# Altium schematic symbol library conn_header.SchLib: 152 symbols
Pins are listed as number, name and electrical type; pins without a type are passive.

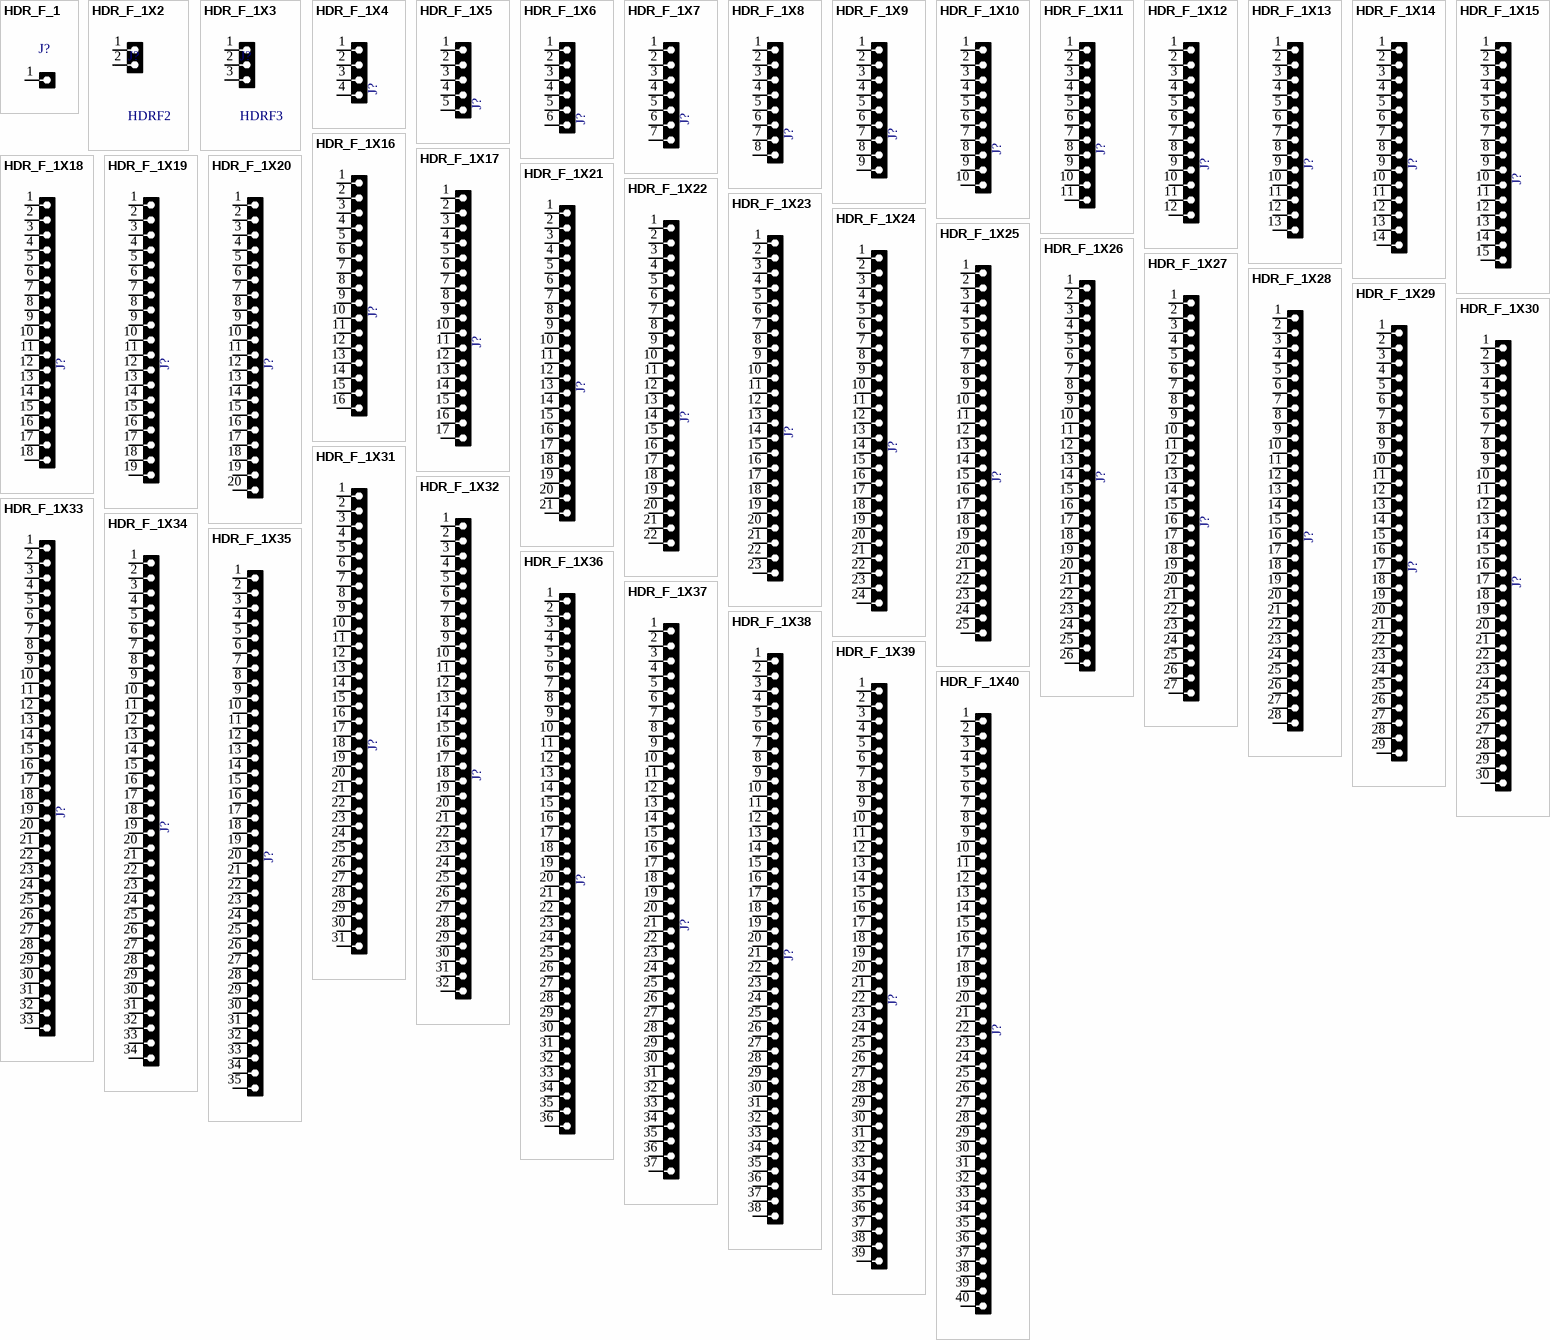
[diagram p0: symbols HDR_F_1 to HDR_F_1X40]

## HDR_F_1
designator J?, comment HDRF1  (value not drawn)
CONN, HEADER, Female, pitch: 2.54mm, 1POS; VALUE: HDRF1
footprint HDR_F_1 (Connector; Header; 1 Position)
pins: 1

## HDR_F_1X2
designator J?, comment HDRF2
CONN, HEADER, Female, pitch: 2.54mm, 2POS; VALUE: HDRF2
footprint HDR_F_1X2 (HEADER FEMALE pitch: 2.54mm)
pins: 1, 2

## HDR_F_1X3
designator J?, comment HDRF3
CONN, HEADER, Female, pitch: 2.54mm, 3POS; VALUE: HDRF3
footprint HDR_F_1X3 (HEADER FEMALE pitch: 2.54mm)
pins: 1, 2, 3

## HDR_F_1X4
designator J?, comment HDRF4  (value not drawn)
CONN, HEADER, Female, pitch: 2.54mm, 4POS; VALUE: HDRF4
footprint HDR_F_1X4 (HEADER FEMALE pitch: 2.54mm)
pins: 1, 2, 3, 4

## HDR_F_1X5
designator J?, comment HDRF5  (value not drawn)
CONN, HEADER, Female, pitch: 2.54mm, 5POS; VALUE: HDRF5
footprint HDR_F_1X5 (HEADER FEMALE pitch: 2.54mm)
pins: 1, 2, 3, 4, 5

## HDR_F_1X6
designator J?, comment HDRF6  (value not drawn)
CONN, HEADER, Female, pitch: 2.54mm, 6POS; VALUE: HDRF6
footprint HDR_F_1X6 (HEADER FEMALE pitch: 2.54mm)
pins: 1, 2, 3, 4, 5, 6

## HDR_F_1X7
designator J?, comment HDRF7  (value not drawn)
CONN, HEADER, Female, pitch: 2.54mm, 7POS; VALUE: HDRF7
footprint HDR_F_1X7 (HEADER FEMALE pitch: 2.54mm)
pins: 1, 2, 3, 4, 5, 6, 7

## HDR_F_1X8
designator J?, comment HDRF8  (value not drawn)
CONN, HEADER, Female, pitch: 2.54mm, 8POS; VALUE: HDRF8
footprint HDR_F_1X8 (HEADER FEMALE pitch: 2.54mm)
pins: 1, 2, 3, 4, 5, 6, 7, 8

## HDR_F_1X9
designator J?, comment HDRF9  (value not drawn)
CONN, HEADER, Female, pitch: 2.54mm, 9POS; VALUE: HDRF9
footprint HDR_F_1X9 (HEADER FEMALE pitch: 2.54mm)
pins: 1, 2, 3, 4, 5, 6, 7, 8, 9

## HDR_F_1X10
designator J?, comment HDRF10  (value not drawn)
CONN, HEADER, Female, pitch: 2.54mm, 10POS; VALUE: HDRF10
footprint HDR_F_1X10 (HEADER FEMALE pitch: 2.54mm)
pins: 1, 2, 3, 4, 5, 6, 7, 8, 9, 10

## HDR_F_1X11
designator J?, comment HDRF11  (value not drawn)
CONN, HEADER, Female, pitch: 2.54mm, 11POS; VALUE: HDRF11
footprint HDR_F_1X11 (Connector; Header; 11 Position)
pins: 1, 2, 3, 4, 5, 6, 7, 8, 9, 10, 11

## HDR_F_1X12
designator J?, comment HDRF12  (value not drawn)
CONN, HEADER, Female, pitch: 2.54mm, 12POS; VALUE: HDRF12
footprint HDR_F_1X12 (Connector; Header; 12 Position)
pins: 1, 2, 3, 4, 5, 6, 7, 8, 9, 10, 11, 12

## HDR_F_1X13
designator J?, comment HDRF13  (value not drawn)
CONN, HEADER, Female, pitch: 2.54mm, 13POS; VALUE: HDRF13
footprint HDR_F_1X13 (Connector; Header; 13 Position)
pins: 1, 2, 3, 4, 5, 6, 7, 8, 9, 10, 11, 12, 13

## HDR_F_1X14
designator J?, comment HDRF14  (value not drawn)
CONN, HEADER, Female, pitch: 2.54mm, 14POS; VALUE: HDRF14
footprint HDR_F_1X14 (Connector; Header; 14 Position)
pins: 1, 2, 3, 4, 5, 6, 7, 8, 9, 10, 11, 12, 13, 14

## HDR_F_1X15
designator J?, comment HDRF15  (value not drawn)
CONN, HEADER, Female, pitch: 2.54mm, 15POS; VALUE: HDRF15
footprint HDR_F_1X15 (Connector; Header; 15 Position)
pins: 1, 2, 3, 4, 5, 6, 7, 8, 9, 10, 11, 12, 13, 14, 15

## HDR_F_1X16
designator J?, comment HDRF16  (value not drawn)
CONN, HEADER, Female, pitch: 2.54mm, 16POS; VALUE: HDRF16
footprint HDR_F_1X16 (Connector; Header; 16 Position)
pins: 1, 2, 3, 4, 5, 6, 7, 8, 9, 10, 11, 12, 13, 14, 15, 16

## HDR_F_1X17
designator J?, comment HDRF17  (value not drawn)
CONN, HEADER, Female, pitch: 2.54mm, 17POS; VALUE: HDRF17
footprint HDR_F_1X17 (Connector; Header; 17 Position)
pins: 1, 2, 3, 4, 5, 6, 7, 8, 9, 10, 11, 12, 13, 14, 15, 16, 17

## HDR_F_1X18
designator J?, comment HDRF18  (value not drawn)
CONN, HEADER, Female, pitch: 2.54mm, 18POS; VALUE: HDRF18
footprint HDR_F_1X18 (Connector; Header; 18 Position)
pins: 1, 2, 3, 4, 5, 6, 7, 8, 9, 10, 11, 12, 13, 14, 15, 16, 17, 18

## HDR_F_1X19
designator J?, comment HDRF19  (value not drawn)
CONN, HEADER, Female, pitch: 2.54mm, 19POS; VALUE: HDRF19
footprint HDR_F_1X19 (Connector; Header; 19 Position)
pins: 1, 2, 3, 4, 5, 6, 7, 8, 9, 10, 11, 12, 13, 14, 15, 16, 17, 18, 19

## HDR_F_1X20
designator J?, comment HDRF20  (value not drawn)
CONN, HEADER, Female, pitch: 2.54mm, 20POS; VALUE: HDRF20
footprint HDR_F_1X20 (Connector; Header; 20 Position)
pins: 1, 2, 3, 4, 5, 6, 7, 8, 9, 10, 11, 12, 13, 14, 15, 16, 17, 18, 19, 20

## HDR_F_1X21
designator J?, comment HDRF21  (value not drawn)
CONN, HEADER, Female, pitch: 2.54mm, 21POS; VALUE: HDRF21
footprint HDR_F_1X21 (Connector; Header; 21 Position)
pins: 1, 2, 3, 4, 5, 6, 7, 8, 9, 10, 11, 12, 13, 14, 15, 16, 17, 18, 19, 20, 21

## HDR_F_1X22
designator J?, comment HDRF22  (value not drawn)
CONN, HEADER, Female, pitch: 2.54mm, 22POS; VALUE: HDRF22
footprint HDR_F_1X22 (Connector; Header; 22 Position)
pins: 1, 2, 3, 4, 5, 6, 7, 8, 9, 10, 11, 12, 13, 14, 15, 16, 17, 18, 19, 20, 21, 22

## HDR_F_1X23
designator J?, comment HDRF23  (value not drawn)
CONN, HEADER, Female, pitch: 2.54mm, 23POS; VALUE: HDRF23
footprint HDR_F_1X23 (Connector; Header; 23 Position)
pins: 1, 2, 3, 4, 5, 6, 7, 8, 9, 10, 11, 12, 13, 14, 15, 16, 17, 18, 19, 20, 21, 22, 23

## HDR_F_1X24
designator J?, comment HDRF24  (value not drawn)
CONN, HEADER, Female, pitch: 2.54mm, 24POS; VALUE: HDRF24
footprint HDR_F_1X24 (Connector; Header; 24 Position)
pins: 1, 2, 3, 4, 5, 6, 7, 8, 9, 10, 11, 12, 13, 14, 15, 16, 17, 18, 19, 20, 21, 22, 23, 24

## HDR_F_1X25
designator J?, comment HDRF25  (value not drawn)
CONN, HEADER, Female, pitch: 2.54mm, 25POS; VALUE: HDRF25
footprint HDR_F_1X25 (Connector; Header; 25 Position)
pins: 1, 2, 3, 4, 5, 6, 7, 8, 9, 10, 11, 12, 13, 14, 15, 16, 17, 18, 19, 20, 21, 22, 23, 24, 25

## HDR_F_1X26
designator J?, comment HDRF26  (value not drawn)
CONN, HEADER, Male, pitch: 2.54mm, 26POS; VALUE: HDRF26
footprint HDR_F_1X26 (Connector; Header; 26 Position)
pins: 1, 2, 3, 4, 5, 6, 7, 8, 9, 10, 11, 12, 13, 14, 15, 16, 17, 18, 19, 20, 21, 22, 23, 24, 25, 26

## HDR_F_1X27
designator J?, comment HDRF27  (value not drawn)
CONN, HEADER, Male, pitch: 2.54mm, 27POS; VALUE: HDRF27
footprint HDR_F_1X27 (Connector; Header; 27 Position)
pins: 1, 2, 3, 4, 5, 6, 7, 8, 9, 10, 11, 12, 13, 14, 15, 16, 17, 18, 19, 20, 21, 22, 23, 24, 25, 26, 27

## HDR_F_1X28
designator J?, comment HDRF28  (value not drawn)
CONN, HEADER, Male, pitch: 2.54mm, 28POS; VALUE: HDRF28
footprint HDR_F_1X28 (Connector; Header; 28 Position)
pins: 1, 2, 3, 4, 5, 6, 7, 8, 9, 10, 11, 12, 13, 14, 15, 16, 17, 18, 19, 20, 21, 22, 23, 24, 25, 26, 27, 28

## HDR_F_1X29
designator J?, comment HDRF29  (value not drawn)
CONN, HEADER, Male, pitch: 2.54mm, 29POS; VALUE: HDRF29
footprint HDR_F_1X29 (Connector; Header; 29 Position)
pins: 1, 2, 3, 4, 5, 6, 7, 8, 9, 10, 11, 12, 13, 14, 15, 16, 17, 18, 19, 20, 21, 22, 23, 24, 25, 26, 27, 28, 29

## HDR_F_1X30
designator J?, comment HDRF30  (value not drawn)
CONN, HEADER, Female, pitch: 2.54mm, 30POS; VALUE: HDRF30
footprint HDR_F_1X30 (Connector; Header; 30 Position)
pins: 1, 2, 3, 4, 5, 6, 7, 8, 9, 10, 11, 12, 13, 14, 15, 16, 17, 18, 19, 20, 21, 22, 23, 24, 25, 26, 27, 28, 29, 30

## HDR_F_1X31
designator J?, comment HDRF31  (value not drawn)
CONN, HEADER, Female, pitch: 2.54mm, 31POS; VALUE: HDRF31
footprint HDR_F_1X31 (Connector; Header; 31 Position)
pins: 1, 2, 3, 4, 5, 6, 7, 8, 9, 10, 11, 12, 13, 14, 15, 16, 17, 18, 19, 20, 21, 22, 23, 24, 25, 26, 27, 28, 29, 30, 31

## HDR_F_1X32
designator J?, comment HDRF32  (value not drawn)
CONN, HEADER, Female, pitch: 2.54mm, 32POS; VALUE: HDRF32
footprint HDR_F_1X32 (Connector; Header; 32 Position)
pins: 1, 2, 3, 4, 5, 6, 7, 8, 9, 10, 11, 12, 13, 14, 15, 16, 17, 18, 19, 20, 21, 22, 23, 24, 25, 26, 27, 28, 29, 30, 31, 32

## HDR_F_1X33
designator J?, comment HDRF33  (value not drawn)
CONN, HEADER, Female, pitch: 2.54mm, 33POS; VALUE: HDRF33
footprint HDR_F_1X33 (Connector; Header; 33 Position)
pins: 1, 2, 3, 4, 5, 6, 7, 8, 9, 10, 11, 12, 13, 14, 15, 16, 17, 18, 19, 20, 21, 22, 23, 24, 25, 26, 27, 28, 29, 30, 31, 32, 33

## HDR_F_1X34
designator J?, comment HDRF34  (value not drawn)
CONN, HEADER, Female, pitch: 2.54mm, 34POS; VALUE: HDRF34
footprint HDR_F_1X34 (Connector; Header; 34 Position)
pins: 1, 2, 3, 4, 5, 6, 7, 8, 9, 10, 11, 12, 13, 14, 15, 16, 17, 18, 19, 20, 21, 22, 23, 24, 25, 26, 27, 28, 29, 30, 31, 32, 33, 34

## HDR_F_1X35
designator J?, comment HDRF35  (value not drawn)
CONN, HEADER, Female, pitch: 2.54mm, 35POS; VALUE: HDRF35
footprint HDR_F_1X35 (Connector; Header; 35 Position)
pins: 1, 2, 3, 4, 5, 6, 7, 8, 9, 10, 11, 12, 13, 14, 15, 16, 17, 18, 19, 20, 21, 22, 23, 24, 25, 26, 27, 28, 29, 30, 31, 32, 33, 34, 35

## HDR_F_1X36
designator J?, comment HDRF36  (value not drawn)
CONN, HEADER, Female, pitch: 2.54mm, 36POS; VALUE: HDRF36
footprint HDR_F_1X36 (Connector; Header; 36 Position)
pins: 1, 2, 3, 4, 5, 6, 7, 8, 9, 10, 11, 12, 13, 14, 15, 16, 17, 18, 19, 20, 21, 22, 23, 24, 25, 26, 27, 28, 29, 30, 31, 32, 33, 34, 35, 36

## HDR_F_1X37
designator J?, comment HDRF37  (value not drawn)
CONN, HEADER, Female, pitch: 2.54mm, 37POS; VALUE: HDRF37
footprint HDR_F_1X37 (Connector; Header; 37 Position)
pins: 1, 2, 3, 4, 5, 6, 7, 8, 9, 10, 11, 12, 13, 14, 15, 16, 17, 18, 19, 20, 21, 22, 23, 24, 25, 26, 27, 28, 29, 30, 31, 32, 33, 34, 35, 36, 37

## HDR_F_1X38
designator J?, comment HDRF38  (value not drawn)
CONN, HEADER, Female, pitch: 2.54mm, 38POS; VALUE: HDRF38
footprint HDR_F_1X38 (Connector; Header; 38 Position)
pins: 1, 2, 3, 4, 5, 6, 7, 8, 9, 10, 11, 12, 13, 14, 15, 16, 17, 18, 19, 20, 21, 22, 23, 24, 25, 26, 27, 28, 29, 30, 31, 32, 33, 34, 35, 36, 37, 38

## HDR_F_1X39
designator J?, comment HDRF39  (value not drawn)
CONN, HEADER, Female, pitch: 2.54mm, 39POS; VALUE: HDRF39
footprint HDR_F_1X39 (Connector; Header; 39 Position)
pins: 1, 2, 3, 4, 5, 6, 7, 8, 9, 10, 11, 12, 13, 14, 15, 16, 17, 18, 19, 20, 21, 22, 23, 24, 25, 26, 27, 28, 29, 30, 31, 32, 33, 34, 35, 36, 37, 38, 39

## HDR_F_1X40
designator J?, comment HDRF40  (value not drawn)
CONN, HEADER, Female, pitch: 2.54mm, 40POS; VALUE: HDRF40
footprint HDR_F_1X40 (Connector; Header; 40 Position)
pins: 1, 2, 3, 4, 5, 6, 7, 8, 9, 10, 11, 12, 13, 14, 15, 16, 17, 18, 19, 20, 21, 22, 23, 24, 25, 26, 27, 28, 29, 30, 31, 32, 33, 34, 35, 36, 37, 38, 39, 40

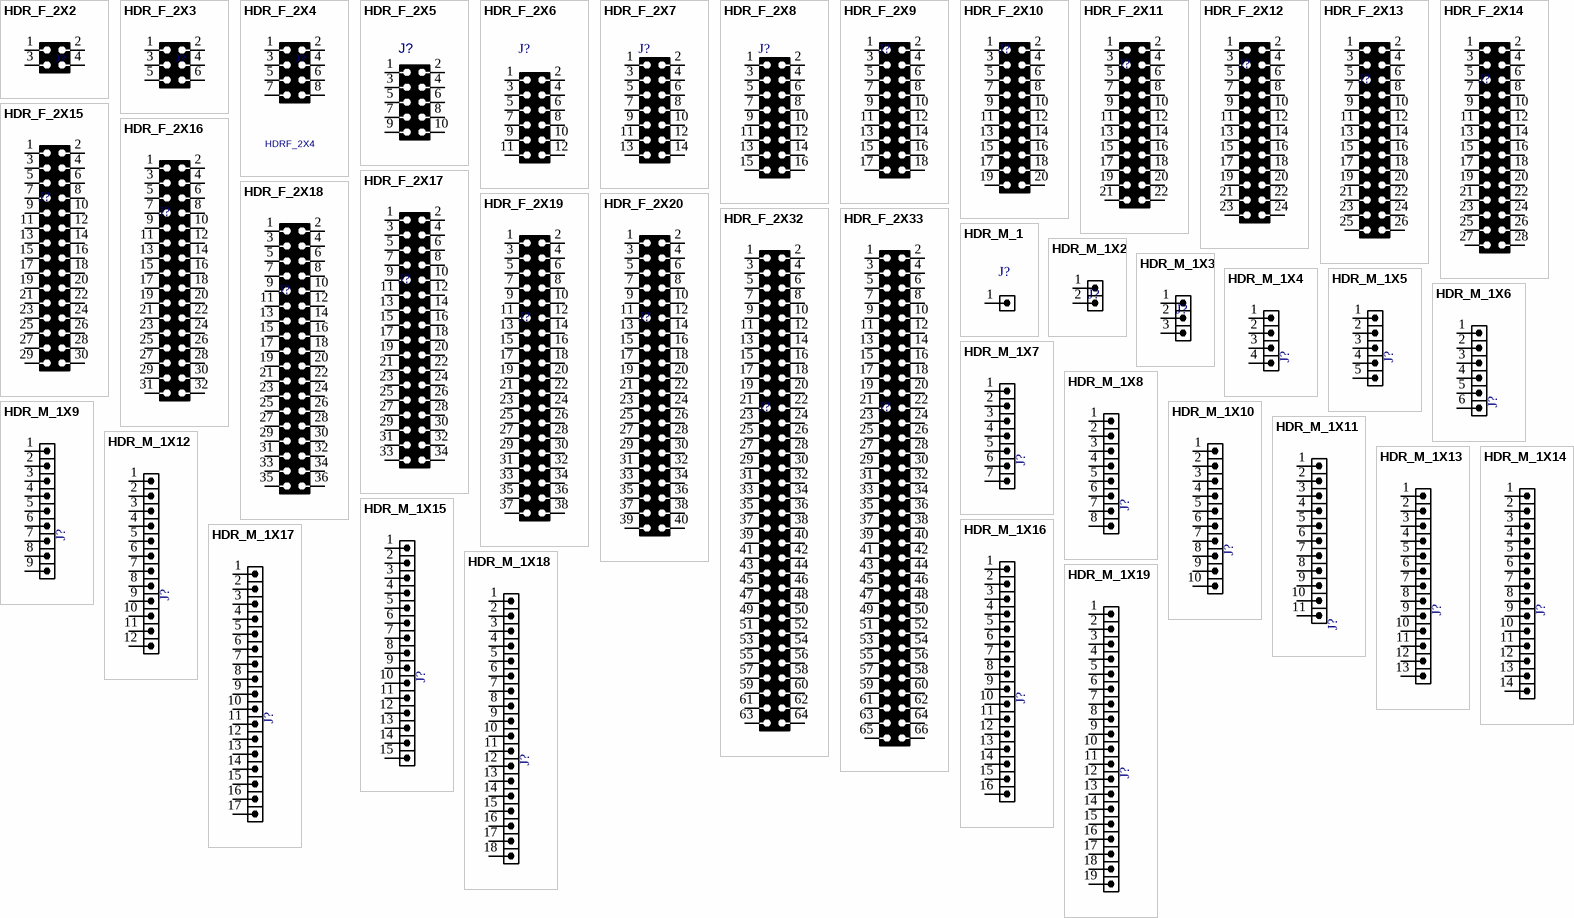
[diagram p1: symbols HDR_F_2X2 to HDR_M_1X19]

## HDR_F_2X2
designator J?, comment HDRF_2X2  (value not drawn)
CONN, HEADER, Female, pitch: 2.54mm, 4POS; MANF_P#: MANF_PART#; MANF: MANF; VALUE: HDRF_2X2
footprint HDR_F_2X2 (Connector; Header; 2x2 Position)
pins: 1, 2, 3, 4

## HDR_F_2X3
designator J?, comment HDRF_2X3  (value not drawn)
CONN, HEADER, Female, pitch: 2.54mm, 6POS; MANF_P#: MANF_PART#; MANF: MANF; VALUE: HDRF_2X3
footprint HDR_F_2X3 (Connector; Header; 3x2 Position)
pins: 1, 2, 3, 4, 5, 6

## HDR_F_2X4
designator J?, comment HDRF_2X4
CONN, HEADER, Female, pitch: 2.54mm, 8POS; MANF_P#: MANF_PART#; MANF: MANF; VALUE: HDRF_2X4
footprint HDR_F_2X4 (Connector; Header; 4x2 Position)
pins: 1, 2, 3, 4, 5, 6, 7, 8

## HDR_F_2X5
designator J?, comment HDRF_2X5  (value not drawn)
CONN, HEADER, Female, pitch: 2.54mm, 10POS; VALUE: HDRF_2X5
footprint HDR_F_2X5 (Connector; Header; 5x2 Position)
pins: 1, 2, 3, 4, 5, 6, 7, 8, 9, 10

## HDR_F_2X6
designator J?, comment HDRF_2X6  (value not drawn)
CONN, HEADER, Female, pitch: 2.54mm, 12POS; VALUE: HDRF_2X6
footprint HDR_F_2X6 (Connector; Header; 6x2 Position)
pins: 1, 2, 3, 4, 5, 6, 7, 8, 9, 10, 11, 12

## HDR_F_2X7
designator J?, comment HDRF_2X7  (value not drawn)
CONN, HEADER, Female, pitch: 2.54mm, 14POS; VALUE: HDRF_2X7
footprint HDR_F_2X7 (Connector; Header; 7x2 Position)
pins: 1, 2, 3, 4, 5, 6, 7, 8, 9, 10, 11, 12, 13, 14

## HDR_F_2X8
designator J?, comment HDRF_2X8  (value not drawn)
CONN, HEADER, Female, pitch: 2.54mm, 16POS; VALUE: HDRF_2X8
footprint HDR_F_2X8 (Connector; Header; 8x2 Position)
pins: 1, 2, 3, 4, 5, 6, 7, 8, 9, 10, 11, 12, 13, 14, 15, 16

## HDR_F_2X9
designator J?, comment HDRF_2X9  (value not drawn)
CONN, HEADER, Female, pitch: 2.54mm, 18POS; VALUE: HDRF_2X9
footprint HDR_F_2X9 (Connector; Header; 9x2 Position)
pins: 1, 2, 3, 4, 5, 6, 7, 8, 9, 10, 11, 12, 13, 14, 15, 16, 17, 18

## HDR_F_2X10
designator J?, comment HDRF_2X10  (value not drawn)
CONN, HEADER, Female, pitch: 2.54mm, 20POS; VALUE: HDRF_2X10
footprint HDR_F_2X10 (Connector; Header; 10x2 Position)
pins: 1, 2, 3, 4, 5, 6, 7, 8, 9, 10, 11, 12, 13, 14, 15, 16, 17, 18, 19, 20

## HDR_F_2X11
designator J?, comment HDRF_2X11  (value not drawn)
CONN, HEADER, Female, pitch: 2.54mm, 22POS; VALUE: HDRF_2X11
footprint HDR_F_2X11 (Connector; Header; 11x2 Position)
pins: 1, 2, 3, 4, 5, 6, 7, 8, 9, 10, 11, 12, 13, 14, 15, 16, 17, 18, 19, 20, 21, 22

## HDR_F_2X12
designator J?, comment HDRF_2X12  (value not drawn)
CONN, HEADER, Female, pitch: 2.54mm, 24POS; VALUE: HDRF_2X12
footprint HDR_F_2X12 (Connector; Header; 12x2 Position)
pins: 1, 2, 3, 4, 5, 6, 7, 8, 9, 10, 11, 12, 13, 14, 15, 16, 17, 18, 19, 20, 21, 22, 23, 24

## HDR_F_2X13
designator J?, comment HDRF_2X13  (value not drawn)
CONN, HEADER, Female, pitch: 2.54mm, 26POS; VALUE: HDRF_2X13
footprint HDR_F_2X13 (Connector; Header; 13x2 Position)
pins: 1, 2, 3, 4, 5, 6, 7, 8, 9, 10, 11, 12, 13, 14, 15, 16, 17, 18, 19, 20, 21, 22, 23, 24, 25, 26

## HDR_F_2X14
designator J?, comment HDRF_2X14  (value not drawn)
CONN, HEADER, Female, pitch: 2.54mm, 28POS; VALUE: HDRF_2X14
footprint HDR_F_2X14 (Connector; Header; 14x2 Position)
pins: 1, 2, 3, 4, 5, 6, 7, 8, 9, 10, 11, 12, 13, 14, 15, 16, 17, 18, 19, 20, 21, 22, 23, 24, 25, 26, 27, 28

## HDR_F_2X15
designator J?, comment HDRF_2X15  (value not drawn)
CONN, HEADER, Female, pitch: 2.54mm, 30POS; VALUE: HDRF_2X15
footprint HDR_F_2X15 (Connector; Header; 15x2 Position)
pins: 1, 2, 3, 4, 5, 6, 7, 8, 9, 10, 11, 12, 13, 14, 15, 16, 17, 18, 19, 20, 21, 22, 23, 24, 25, 26, 27, 28, 29, 30

## HDR_F_2X16
designator J?, comment HDRF_2X16  (value not drawn)
CONN, HEADER, Female, pitch: 2.54mm, 32POS; VALUE: HDRF_2X16
footprint HDR_F_2X16 (Connector; Header; 16x2 Position)
pins: 1, 2, 3, 4, 5, 6, 7, 8, 9, 10, 11, 12, 13, 14, 15, 16, 17, 18, 19, 20, 21, 22, 23, 24, 25, 26, 27, 28, 29, 30, 31, 32

## HDR_F_2X17
designator J?, comment HDRF_2X17  (value not drawn)
CONN, HEADER, Female, pitch: 2.54mm, 34POS; VALUE: HDRF_2X17
footprint HDR_F_2X17 (Connector; Header; 17x2 Position)
pins: 1, 2, 3, 4, 5, 6, 7, 8, 9, 10, 11, 12, 13, 14, 15, 16, 17, 18, 19, 20, 21, 22, 23, 24, 25, 26, 27, 28, 29, 30, 31, 32, 33, 34

## HDR_F_2X18
designator J?, comment HDRF_2X18  (value not drawn)
CONN, HEADER, Female, pitch: 2.54mm, 36POS; VALUE: HDRF_2X18
footprint HDR_F_2X18 (Connector; Header; 18x2 Position)
pins: 1, 2, 3, 4, 5, 6, 7, 8, 9, 10, 11, 12, 13, 14, 15, 16, 17, 18, 19, 20, 21, 22, 23, 24, 25, 26, 27, 28, 29, 30, 31, 32, 33, 34, 35, 36

## HDR_F_2X19
designator J?, comment HDRF_2X19  (value not drawn)
CONN, HEADER, Female, pitch: 2.54mm, 38POS; VALUE: HDRF_2X19
footprint HDR_F_2X19 (Connector; Header; 19x2 Position)
pins: 1, 2, 3, 4, 5, 6, 7, 8, 9, 10, 11, 12, 13, 14, 15, 16, 17, 18, 19, 20, 21, 22, 23, 24, 25, 26, 27, 28, 29, 30, 31, 32, 33, 34, 35, 36, 37, 38

## HDR_F_2X20
designator J?, comment HDRF_2X20  (value not drawn)
CONN, HEADER, Female, pitch: 2.54mm, 40POS; VALUE: HDRF_2X20
footprint HDR_F_2X20 (Connector; Header; 20x2 Position)
pins: 1, 2, 3, 4, 5, 6, 7, 8, 9, 10, 11, 12, 13, 14, 15, 16, 17, 18, 19, 20, 21, 22, 23, 24, 25, 26, 27, 28, 29, 30, 31, 32, 33, 34, 35, 36, 37, 38, 39, 40

## HDR_F_2X32
designator J?, comment HDRF_2X32  (value not drawn)
CONN, HEADER, Female, pitch: 2.54mm, 64POS; VALUE: HDRF_2X32
footprint HDR_F_2X32 (Footprint not found)
pins: 1, 2, 3, 4, 5, 6, 7, 8, 9, 10, 11, 12, 13, 14, 15, 16, 17, 18, 19, 20, 21, 22, 23, 24, 25, 26, 27, 28, 29, 30, 31, 32, 33, 34, 35, 36, 37, 38, 39, 40, 41, 42, 43, 44, 45, 46, 47, 48, 49, 50, 51, 52, 53, 54, 55, 56, 57, 58, 59, 60, 61, 62, 63, 64

## HDR_F_2X33
designator J?, comment HDRF_2X33  (value not drawn)
CONN, HEADER, Female, pitch: 2.54mm, 66POS; VALUE: HDRF_2X33
footprint HDR_F_2X33 (Male Header 2X32 with 2.54 mm Pitch)
pins: 1, 2, 3, 4, 5, 6, 7, 8, 9, 10, 11, 12, 13, 14, 15, 16, 17, 18, 19, 20, 21, 22, 23, 24, 25, 26, 27, 28, 29, 30, 31, 32, 33, 34, 35, 36, 37, 38, 39, 40, 41, 42, 43, 44, 45, 46, 47, 48, 49, 50, 51, 52, 53, 54, 55, 56, 57, 58, 59, 60, 61, 62, 63, 64, 65, 66

## HDR_M_1
designator J?, comment HDRM1  (value not drawn)
CONN, HEADER, Male, pitch: 2.54mm, 1POS; VALUE: HDRM1
footprint HDR_M_1 (Footprint not found)
pins: 1

## HDR_M_1X2
designator J?, comment HDRM2  (value not drawn)
CONN, HEADER, Male, pitch: 2.54mm, 2POS; VALUE: HDRM2
footprint HDR_M_1X2
pins: 1, 2

## HDR_M_1X3
designator J?, comment HDRM3  (value not drawn)
CONN, HEADER, Male, pitch: 2.54mm, 3POS; VALUE: HDRM3
footprint HDR_M_1X3
pins: 1, 2, 3

## HDR_M_1X4
designator J?, comment HDR1X4  (value not drawn)
CONN, HEADER, Male, pitch: 2.54mm, 4POS; VALUE: HDRM4
footprint HDR_M_1X4
pins: 1, 2, 3, 4

## HDR_M_1X5
designator J?, comment HDR1X5  (value not drawn)
CONN, HEADER, Male, pitch: 2.54mm, 5POS; VALUE: HDRM5
footprint HDR_M_1X5
pins: 1, 2, 3, 4, 5

## HDR_M_1X6
designator J?, comment HDR1X6  (value not drawn)
CONN, HEADER, Male, pitch: 2.54mm, 6POS; VALUE: HDRM6
footprint HDR_M_1X6
pins: 1, 2, 3, 4, 5, 6

## HDR_M_1X7
designator J?, comment HDR1X7  (value not drawn)
CONN, HEADER, Male, pitch: 2.54mm, 7POS; VALUE: HDRM7
footprint HDR_M_1X7
pins: 1, 2, 3, 4, 5, 6, 7

## HDR_M_1X8
designator J?, comment HDR1X8  (value not drawn)
CONN, HEADER, Male, pitch: 2.54mm, 8POS; VALUE: HDRM8
footprint HDR_M_1X8
pins: 1, 2, 3, 4, 5, 6, 7, 8

## HDR_M_1X9
designator J?, comment HDR1X9  (value not drawn)
CONN, HEADER, Male, pitch: 2.54mm, 9POS; VALUE: HDRM9
footprint HDR_M_1X9
pins: 1, 2, 3, 4, 5, 6, 7, 8, 9

## HDR_M_1X10
designator J?, comment HDR1X10  (value not drawn)
CONN, HEADER, Male, pitch: 2.54mm, 10POS; VALUE: HDRM10
footprint HDR_M_1X10
pins: 1, 2, 3, 4, 5, 6, 7, 8, 9, 10

## HDR_M_1X11
designator J?, comment HDR1X11  (value not drawn)
CONN, HEADER, Male, pitch: 2.54mm, 11POS; VALUE: HDRM11
footprint HDR_M_1X11
pins: 1, 2, 3, 4, 5, 6, 7, 8, 9, 10, 11

## HDR_M_1X12
designator J?, comment HDR1X12  (value not drawn)
CONN, HEADER, Male, pitch: 2.54mm, 12POS; VALUE: HDRM12
footprint HDR_M_1X12
pins: 1, 2, 3, 4, 5, 6, 7, 8, 9, 10, 11, 12

## HDR_M_1X13
designator J?, comment HDR1X13  (value not drawn)
CONN, HEADER, Male, pitch: 2.54mm, 13POS; VALUE: HDRM13
footprint HDR_M_1X13
pins: 1, 2, 3, 4, 5, 6, 7, 8, 9, 10, 11, 12, 13

## HDR_M_1X14
designator J?, comment HDR1X14  (value not drawn)
CONN, HEADER, Male, pitch: 2.54mm, 14POS; VALUE: HDRM14
footprint HDR_M_1X14
pins: 1, 2, 3, 4, 5, 6, 7, 8, 9, 10, 11, 12, 13, 14

## HDR_M_1X15
designator J?, comment HDR1X15  (value not drawn)
CONN, HEADER, Male, pitch: 2.54mm, 15POS; VALUE: HDRM15
footprint HDR_M_1X15
pins: 1, 2, 3, 4, 5, 6, 7, 8, 9, 10, 11, 12, 13, 14, 15

## HDR_M_1X16
designator J?, comment HDR1X16  (value not drawn)
CONN, HEADER, Male, pitch: 2.54mm, 16POS; VALUE: HDRM16
footprint HDR_M_1X16
pins: 1, 2, 3, 4, 5, 6, 7, 8, 9, 10, 11, 12, 13, 14, 15, 16

## HDR_M_1X17
designator J?, comment HDR1X17  (value not drawn)
CONN, HEADER, Male, pitch: 2.54mm, 17POS; VALUE: HDRM17
footprint HDR_M_1X17
pins: 1, 2, 3, 4, 5, 6, 7, 8, 9, 10, 11, 12, 13, 14, 15, 16, 17

## HDR_M_1X18
designator J?, comment HDR1X18  (value not drawn)
CONN, HEADER, Male, pitch: 2.54mm, 18POS; VALUE: HDRM18
footprint HDR_M_1X18
pins: 1, 2, 3, 4, 5, 6, 7, 8, 9, 10, 11, 12, 13, 14, 15, 16, 17, 18

## HDR_M_1X19
designator J?, comment HDR1X19  (value not drawn)
CONN, HEADER, Male, pitch: 2.54mm, 19POS; VALUE: HDRM19
footprint HDR_M_1X19
pins: 1, 2, 3, 4, 5, 6, 7, 8, 9, 10, 11, 12, 13, 14, 15, 16, 17, 18, 19

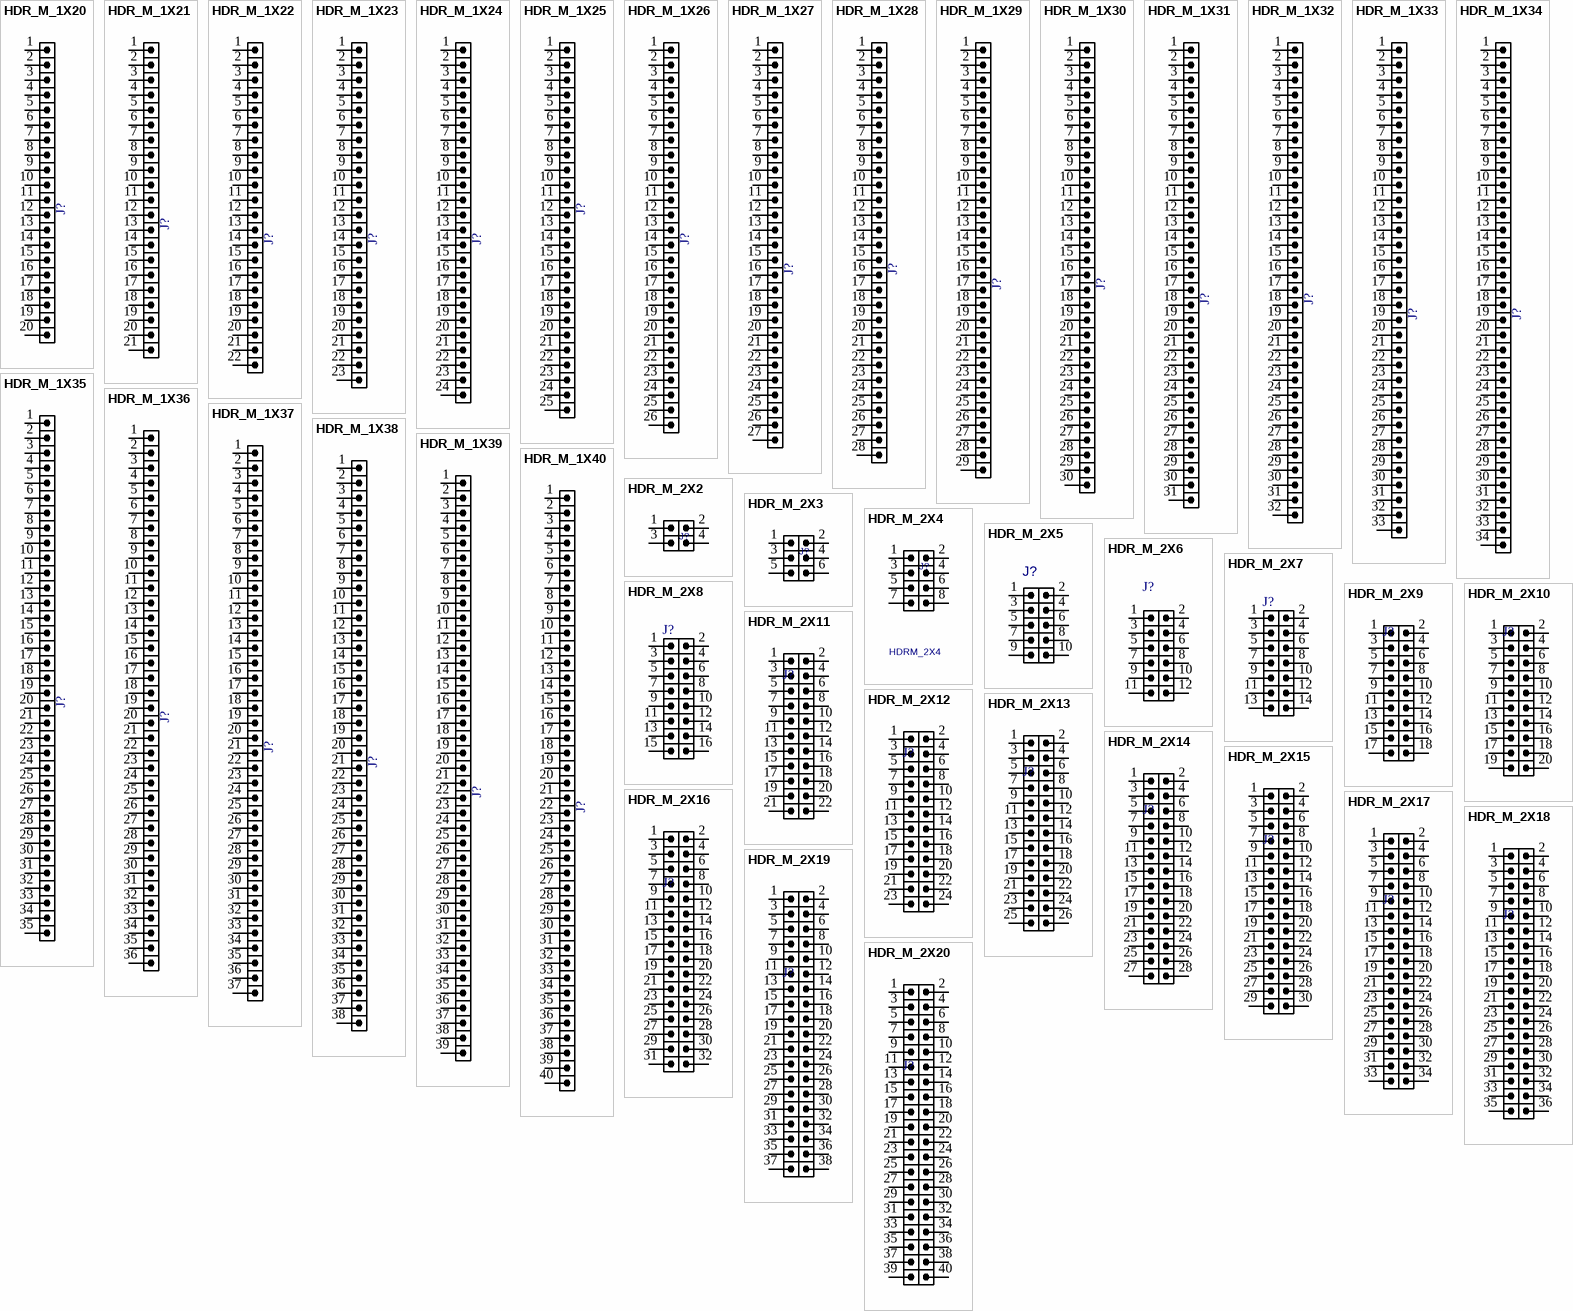
[diagram p2: symbols HDR_M_1X20 to HDR_M_2X20]

## HDR_M_1X20
designator J?, comment HDR1X20  (value not drawn)
CONN, HEADER, Male, pitch: 2.54mm, 20POS; VALUE: HDRM20
footprint HDR_M_1X20
pins: 1, 2, 3, 4, 5, 6, 7, 8, 9, 10, 11, 12, 13, 14, 15, 16, 17, 18, 19, 20

## HDR_M_1X21
designator J?, comment HDRF21  (value not drawn)
CONN, HEADER, Male, pitch: 2.54mm, 21POS; VALUE: HDRF21
footprint HDR_M_1X21 (Connector; Header; 21 Position)
pins: 1, 2, 3, 4, 5, 6, 7, 8, 9, 10, 11, 12, 13, 14, 15, 16, 17, 18, 19, 20, 21

## HDR_M_1X22
designator J?, comment HDRF22  (value not drawn)
CONN, HEADER, Male, pitch: 2.54mm, 22POS; VALUE: HDRF22
footprint HDR_M_1X22 (Connector; Header; 22 Position)
pins: 1, 2, 3, 4, 5, 6, 7, 8, 9, 10, 11, 12, 13, 14, 15, 16, 17, 18, 19, 20, 21, 22

## HDR_M_1X23
designator J?, comment HDRF23  (value not drawn)
CONN, HEADER, Male, pitch: 2.54mm, 23POS; VALUE: HDRF23
footprint HDR_M_1X23 (Connector; Header; 23 Position)
pins: 1, 2, 3, 4, 5, 6, 7, 8, 9, 10, 11, 12, 13, 14, 15, 16, 17, 18, 19, 20, 21, 22, 23

## HDR_M_1X24
designator J?, comment HDRF24  (value not drawn)
CONN, HEADER, Male, pitch: 2.54mm, 24POS; VALUE: HDRF24
footprint HDR_M_1X24 (Connector; Header; 24 Position)
pins: 1, 2, 3, 4, 5, 6, 7, 8, 9, 10, 11, 12, 13, 14, 15, 16, 17, 18, 19, 20, 21, 22, 23, 24

## HDR_M_1X25
designator J?, comment HDR1X25  (value not drawn)
CONN, HEADER, Male, pitch: 2.54mm, 25POS; VALUE: HDRM25
footprint HDR_M_1X25 (Connector; Header; 25 Position)
pins: 1, 2, 3, 4, 5, 6, 7, 8, 9, 10, 11, 12, 13, 14, 15, 16, 17, 18, 19, 20, 21, 22, 23, 24, 25

## HDR_M_1X26
designator J?, comment HDRF26  (value not drawn)
CONN, HEADER, Male, pitch: 2.54mm, 26POS; VALUE: HDRF26
footprint HDR_M_1X26 (Connector; Header; 26 Position)
pins: 1, 2, 3, 4, 5, 6, 7, 8, 9, 10, 11, 12, 13, 14, 15, 16, 17, 18, 19, 20, 21, 22, 23, 24, 25, 26

## HDR_M_1X27
designator J?, comment HDRF27  (value not drawn)
CONN, HEADER, Male, pitch: 2.54mm, 27POS; VALUE: HDRF27
footprint HDR_M_1X27 (Connector; Header; 27 Position)
pins: 1, 2, 3, 4, 5, 6, 7, 8, 9, 10, 11, 12, 13, 14, 15, 16, 17, 18, 19, 20, 21, 22, 23, 24, 25, 26, 27

## HDR_M_1X28
designator J?, comment HDRF28  (value not drawn)
CONN, HEADER, Male, pitch: 2.54mm, 28POS; VALUE: HDRF28
footprint HDR_M_1X28 (Connector; Header; 28 Position)
pins: 1, 2, 3, 4, 5, 6, 7, 8, 9, 10, 11, 12, 13, 14, 15, 16, 17, 18, 19, 20, 21, 22, 23, 24, 25, 26, 27, 28

## HDR_M_1X29
designator J?, comment HDRF29  (value not drawn)
CONN, HEADER, Male, pitch: 2.54mm, 29POS; VALUE: HDRF29
footprint HDR_M_1X29 (Connector; Header; 29 Position)
pins: 1, 2, 3, 4, 5, 6, 7, 8, 9, 10, 11, 12, 13, 14, 15, 16, 17, 18, 19, 20, 21, 22, 23, 24, 25, 26, 27, 28, 29

## HDR_M_1X30
designator J?, comment HDRF30  (value not drawn)
CONN, HEADER, Male, pitch: 2.54mm, 30POS; VALUE: HDRF30
footprint HDR_M_1X30 (Connector; Header; 30 Position)
pins: 1, 2, 3, 4, 5, 6, 7, 8, 9, 10, 11, 12, 13, 14, 15, 16, 17, 18, 19, 20, 21, 22, 23, 24, 25, 26, 27, 28, 29, 30

## HDR_M_1X31
designator J?, comment HDRF31  (value not drawn)
CONN, HEADER, Male, pitch: 2.54mm, 31POS; VALUE: HDRF31
footprint HDR_M_1X31 (Connector; Header; 31 Position)
pins: 1, 2, 3, 4, 5, 6, 7, 8, 9, 10, 11, 12, 13, 14, 15, 16, 17, 18, 19, 20, 21, 22, 23, 24, 25, 26, 27, 28, 29, 30, 31

## HDR_M_1X32
designator J?, comment HDRF32  (value not drawn)
CONN, HEADER, Male, pitch: 2.54mm, 32POS; VALUE: HDRF32
footprint HDR_M_1X32 (Connector; Header; 32 Position)
pins: 1, 2, 3, 4, 5, 6, 7, 8, 9, 10, 11, 12, 13, 14, 15, 16, 17, 18, 19, 20, 21, 22, 23, 24, 25, 26, 27, 28, 29, 30, 31, 32

## HDR_M_1X33
designator J?, comment HDRF33  (value not drawn)
CONN, HEADER, Male, pitch: 2.54mm, 33POS; VALUE: HDRF33
footprint HDR_M_1X33 (Connector; Header; 33 Position)
pins: 1, 2, 3, 4, 5, 6, 7, 8, 9, 10, 11, 12, 13, 14, 15, 16, 17, 18, 19, 20, 21, 22, 23, 24, 25, 26, 27, 28, 29, 30, 31, 32, 33

## HDR_M_1X34
designator J?, comment HDRF34  (value not drawn)
CONN, HEADER, Male, pitch: 2.54mm, 34POS; VALUE: HDRF34
footprint HDR_M_1X34 (Connector; Header; 34 Position)
pins: 1, 2, 3, 4, 5, 6, 7, 8, 9, 10, 11, 12, 13, 14, 15, 16, 17, 18, 19, 20, 21, 22, 23, 24, 25, 26, 27, 28, 29, 30, 31, 32, 33, 34

## HDR_M_1X35
designator J?, comment HDRF35  (value not drawn)
CONN, HEADER, Male, pitch: 2.54mm, 35POS; VALUE: HDRF35
footprint HDR_M_1X35 (Connector; Header; 36 Position)
pins: 1, 2, 3, 4, 5, 6, 7, 8, 9, 10, 11, 12, 13, 14, 15, 16, 17, 18, 19, 20, 21, 22, 23, 24, 25, 26, 27, 28, 29, 30, 31, 32, 33, 34, 35

## HDR_M_1X36
designator J?, comment HDRF36  (value not drawn)
CONN, HEADER, Male, pitch: 2.54mm, 36POS; VALUE: HDRF36
footprint HDR_M_1X36 (Connector; Header; 35 Position)
pins: 1, 2, 3, 4, 5, 6, 7, 8, 9, 10, 11, 12, 13, 14, 15, 16, 17, 18, 19, 20, 21, 22, 23, 24, 25, 26, 27, 28, 29, 30, 31, 32, 33, 34, 35, 36

## HDR_M_1X37
designator J?, comment HDRF37  (value not drawn)
CONN, HEADER, Male, pitch: 2.54mm, 37POS; VALUE: HDRF37
footprint HDR_M_1X37 (Connector; Header; 37 Position)
pins: 1, 2, 3, 4, 5, 6, 7, 8, 9, 10, 11, 12, 13, 14, 15, 16, 17, 18, 19, 20, 21, 22, 23, 24, 25, 26, 27, 28, 29, 30, 31, 32, 33, 34, 35, 36, 37

## HDR_M_1X38
designator J?, comment HDRF38  (value not drawn)
CONN, HEADER, Male, pitch: 2.54mm, 38POS; VALUE: HDRF38
footprint HDR_M_1X38 (Connector; Header; 38 Position)
pins: 1, 2, 3, 4, 5, 6, 7, 8, 9, 10, 11, 12, 13, 14, 15, 16, 17, 18, 19, 20, 21, 22, 23, 24, 25, 26, 27, 28, 29, 30, 31, 32, 33, 34, 35, 36, 37, 38

## HDR_M_1X39
designator J?, comment HDRF39  (value not drawn)
CONN, HEADER, Male, pitch: 2.54mm, 39POS; VALUE: HDRF39
footprint HDR_M_1X39 (Connector; Header; 39 Position)
pins: 1, 2, 3, 4, 5, 6, 7, 8, 9, 10, 11, 12, 13, 14, 15, 16, 17, 18, 19, 20, 21, 22, 23, 24, 25, 26, 27, 28, 29, 30, 31, 32, 33, 34, 35, 36, 37, 38, 39

## HDR_M_1X40
designator J?, comment HDRF40  (value not drawn)
CONN, HEADER, Male, pitch: 2.54mm, 40POS; VALUE: HDRF40
footprint HDR_M_1X40 (Connector; Header; 40 Position)
pins: 1, 2, 3, 4, 5, 6, 7, 8, 9, 10, 11, 12, 13, 14, 15, 16, 17, 18, 19, 20, 21, 22, 23, 24, 25, 26, 27, 28, 29, 30, 31, 32, 33, 34, 35, 36, 37, 38, 39, 40

## HDR_M_2X2
designator J?, comment HDRM_2X2  (value not drawn)
CONN, HEADER, Male, pitch: 2.54mm, 4POS; MANF_P#: MANF_PART#; MANF: MANF; VALUE: HDRM_2X2
footprint HDR_M_2X2 (Connector; Header; 2x2 Position)
pins: 1, 2, 3, 4

## HDR_M_2X3
designator J?, comment HDRM_2X3  (value not drawn)
CONN, HEADER, Male, pitch: 2.54mm, 6POS; MANF_P#: MANF_PART#; MANF: MANF; VALUE: HDRM_2X3
footprint HDR_M_2X3 (Connector; Header; 3x2 Position)
pins: 1, 2, 3, 4, 5, 6

## HDR_M_2X4
designator J?, comment HDRM_2X4
CONN, HEADER, Male, pitch: 2.54mm, 8POS; MANF_P#: MANF_PART#; MANF: MANF; VALUE: HDRM_2X4
footprint HDR_M_2X4 (Male Header 2X04 with 2.54 mm Pitch)
pins: 1, 2, 3, 4, 5, 6, 7, 8

## HDR_M_2X5
designator J?, comment HDRM_2X5  (value not drawn)
CONN, HEADER, Male, pitch: 2.54mm, 10POS; VALUE: HDRM_2X5
footprint HDR_M_2X5 (Male Header 2X05 with 2.54 mm Pitch)
pins: 1, 2, 3, 4, 5, 6, 7, 8, 9, 10

## HDR_M_2X6
designator J?, comment HDRM_2X6  (value not drawn)
CONN, HEADER, Male, pitch: 2.54mm, 12POS; VALUE: HDRM_2X6
footprint HDR_M_2X6 (Male Header 2X06 with 2.54 mm Pitch)
pins: 1, 2, 3, 4, 5, 6, 7, 8, 9, 10, 11, 12

## HDR_M_2X7
designator J?, comment HDRM_2X7  (value not drawn)
CONN, HEADER, Male, pitch: 2.54mm, 14POS; VALUE: HDRM_2X7
footprint HDR_M_2X7 (Male Header 2X07 with 2.54 mm Pitch)
pins: 1, 2, 3, 4, 5, 6, 7, 8, 9, 10, 11, 12, 13, 14

## HDR_M_2X8
designator J?, comment HDRM_2X8  (value not drawn)
CONN, HEADER, Male, pitch: 2.54mm, 16POS; VALUE: HDRM_2X8
footprint HDR_M_2X8 (Male Header 2X08 with 2.54 mm Pitch)
pins: 1, 2, 3, 4, 5, 6, 7, 8, 9, 10, 11, 12, 13, 14, 15, 16

## HDR_M_2X9
designator J?, comment HDRM_2X9  (value not drawn)
CONN, HEADER, Male, pitch: 2.54mm, 18POS; VALUE: HDRM_2X9
footprint HDR_M_2X9 (Male Header 2X09 with 2.54 mm Pitch)
pins: 1, 2, 3, 4, 5, 6, 7, 8, 9, 10, 11, 12, 13, 14, 15, 16, 17, 18

## HDR_M_2X10
designator J?, comment HDRM_2X10  (value not drawn)
CONN, HEADER, Male, pitch: 2.54mm, 20POS; VALUE: HDRM_2X10
footprint HDR_M_2X10 (Male Header 2X10 with 2.54 mm Pitch)
pins: 1, 2, 3, 4, 5, 6, 7, 8, 9, 10, 11, 12, 13, 14, 15, 16, 17, 18, 19, 20

## HDR_M_2X11
designator J?, comment HDRM_2X11  (value not drawn)
CONN, HEADER, Male, pitch: 2.54mm, 22POS; VALUE: HDRM_2X11
footprint HDR_M_2X11 (Male Header 2X11 with 2.54 mm Pitch)
pins: 1, 2, 3, 4, 5, 6, 7, 8, 9, 10, 11, 12, 13, 14, 15, 16, 17, 18, 19, 20, 21, 22

## HDR_M_2X12
designator J?, comment HDRM_2X12  (value not drawn)
CONN, HEADER, Male, pitch: 2.54mm, 24POS; VALUE: HDRM_2X12
footprint HDR_M_2X12 (Male Header 2X12 with 2.54 mm Pitch)
pins: 1, 2, 3, 4, 5, 6, 7, 8, 9, 10, 11, 12, 13, 14, 15, 16, 17, 18, 19, 20, 21, 22, 23, 24

## HDR_M_2X13
designator J?, comment HDRM_2X13  (value not drawn)
CONN, HEADER, Male, pitch: 2.54mm, 26POS; VALUE: HDRM_2X13
footprint HDR_M_2X13 (Male Header 2X13 with 2.54 mm Pitch)
pins: 1, 2, 3, 4, 5, 6, 7, 8, 9, 10, 11, 12, 13, 14, 15, 16, 17, 18, 19, 20, 21, 22, 23, 24, 25, 26

## HDR_M_2X14
designator J?, comment HDRM_2X14  (value not drawn)
CONN, HEADER, Male, pitch: 2.54mm, 28POS; VALUE: HDRM_2X14
footprint HDR_M_2X14 (Male Header 2X14 with 2.54 mm Pitch)
pins: 1, 2, 3, 4, 5, 6, 7, 8, 9, 10, 11, 12, 13, 14, 15, 16, 17, 18, 19, 20, 21, 22, 23, 24, 25, 26, 27, 28

## HDR_M_2X15
designator J?, comment HDRM_2X15  (value not drawn)
CONN, HEADER, Male, pitch: 2.54mm, 30POS; VALUE: HDRM_2X15
footprint HDR_M_2X15 (Connector; Header; 15x2 Position)
pins: 1, 2, 3, 4, 5, 6, 7, 8, 9, 10, 11, 12, 13, 14, 15, 16, 17, 18, 19, 20, 21, 22, 23, 24, 25, 26, 27, 28, 29, 30

## HDR_M_2X16
designator J?, comment HDRM_2X16  (value not drawn)
CONN, HEADER, Male, pitch: 2.54mm, 32POS; VALUE: HDRM_2X16
footprint HDR_M_2X16 (Connector; Header; 16x2 Position)
pins: 1, 2, 3, 4, 5, 6, 7, 8, 9, 10, 11, 12, 13, 14, 15, 16, 17, 18, 19, 20, 21, 22, 23, 24, 25, 26, 27, 28, 29, 30, 31, 32

## HDR_M_2X17
designator J?, comment HDRM_2X17  (value not drawn)
CONN, HEADER, Male, pitch: 2.54mm, 34POS; VALUE: HDRM_2X17
footprint HDR_M_2X17 (Connector; Header; 17x2 Position)
pins: 1, 2, 3, 4, 5, 6, 7, 8, 9, 10, 11, 12, 13, 14, 15, 16, 17, 18, 19, 20, 21, 22, 23, 24, 25, 26, 27, 28, 29, 30, 31, 32, 33, 34

## HDR_M_2X18
designator J?, comment HDRM_2X18  (value not drawn)
CONN, HEADER, Male, pitch: 2.54mm, 36POS; VALUE: HDRM_2X18
footprint HDR_M_2X18 (Connector; Header; 18x2 Position)
pins: 1, 2, 3, 4, 5, 6, 7, 8, 9, 10, 11, 12, 13, 14, 15, 16, 17, 18, 19, 20, 21, 22, 23, 24, 25, 26, 27, 28, 29, 30, 31, 32, 33, 34, 35, 36

## HDR_M_2X19
designator J?, comment HDRM_2X19  (value not drawn)
CONN, HEADER, Male, pitch: 2.54mm, 38POS; VALUE: HDRM_2X19
footprint HDR_M_2X19 (Connector; Header; 19x2 Position)
pins: 1, 2, 3, 4, 5, 6, 7, 8, 9, 10, 11, 12, 13, 14, 15, 16, 17, 18, 19, 20, 21, 22, 23, 24, 25, 26, 27, 28, 29, 30, 31, 32, 33, 34, 35, 36, 37, 38

## HDR_M_2X20
designator J?, comment HDRM_2X20  (value not drawn)
CONN, HEADER, Male, pitch: 2.54mm, 40POS; VALUE: HDRM_2X20
footprint HDR_M_2X20 (Connector; Header; 20x2 Position)
pins: 1, 2, 3, 4, 5, 6, 7, 8, 9, 10, 11, 12, 13, 14, 15, 16, 17, 18, 19, 20, 21, 22, 23, 24, 25, 26, 27, 28, 29, 30, 31, 32, 33, 34, 35, 36, 37, 38, 39, 40

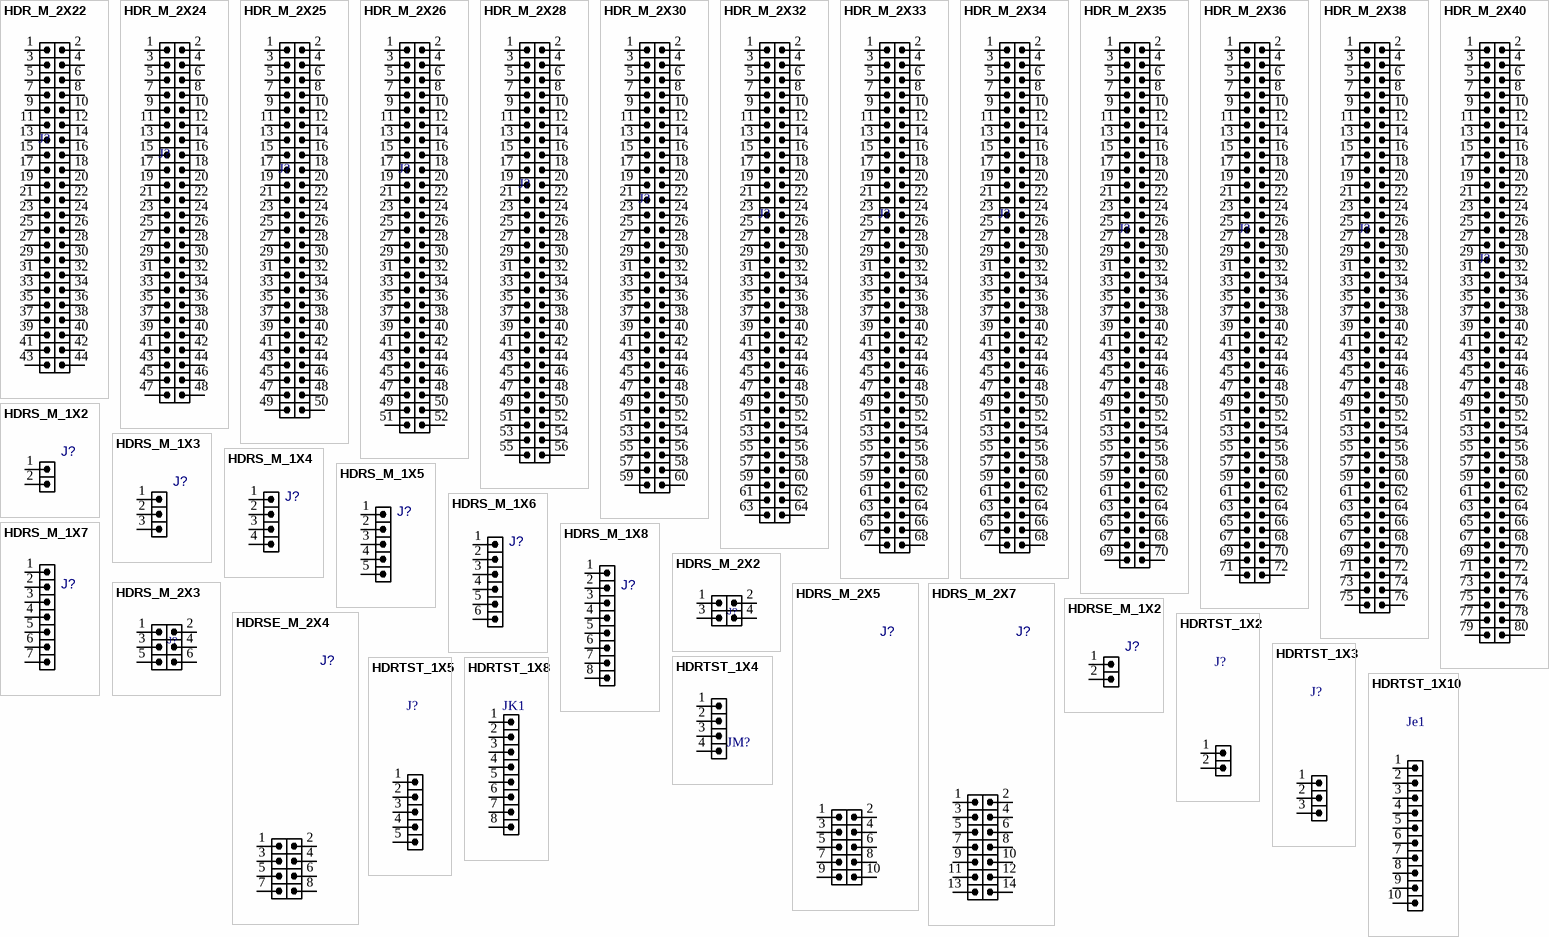
[diagram p3: symbols HDR_M_2X22 to HDRTST_1X10]

## HDR_M_2X22
designator J?  (value not drawn)
CONN, HEADER, Male, pitch: 2.54mm, 44POS; VALUE: HDR_M_2X22
footprint HDR_M_2X22 (Male Header 2X22 with 2.54 mm Pitch)
pins: 1, 2, 3, 4, 5, 6, 7, 8, 9, 10, 11, 12, 13, 14, 15, 16, 17, 18, 19, 20, 21, 22, 23, 24, 25, 26, 27, 28, 29, 30, 31, 32, 33, 34, 35, 36, 37, 38, 39, 40, 41, 42, 43, 44

## HDR_M_2X24
designator J?  (value not drawn)
CONN, HEADER, Male, pitch: 2.54mm, 48POS; VALUE: HDR_M_2X24
footprint HDR_M_2X24 (Male Header 2X24 with 2.54 mm Pitch)
pins: 1, 2, 3, 4, 5, 6, 7, 8, 9, 10, 11, 12, 13, 14, 15, 16, 17, 18, 19, 20, 21, 22, 23, 24, 25, 26, 27, 28, 29, 30, 31, 32, 33, 34, 35, 36, 37, 38, 39, 40, 41, 42, 43, 44, 45, 46, 47, 48

## HDR_M_2X25
designator J?  (value not drawn)
CONN, HEADER, Male, pitch: 2.54mm, 50POS; VALUE: HDR_M_2X25
footprint HDR_M_2X25 (Male Header 2X25 with 2.54 mm Pitch)
pins: 1, 2, 3, 4, 5, 6, 7, 8, 9, 10, 11, 12, 13, 14, 15, 16, 17, 18, 19, 20, 21, 22, 23, 24, 25, 26, 27, 28, 29, 30, 31, 32, 33, 34, 35, 36, 37, 38, 39, 40, 41, 42, 43, 44, 45, 46, 47, 48, 49, 50

## HDR_M_2X26
designator J?  (value not drawn)
CONN, HEADER, Male, pitch: 2.54mm, 52POS; VALUE: HDR_M_2X26
footprint HDR_M_2X26 (Male Header 2X26 with 2.54 mm Pitch)
pins: 1, 2, 3, 4, 5, 6, 7, 8, 9, 10, 11, 12, 13, 14, 15, 16, 17, 18, 19, 20, 21, 22, 23, 24, 25, 26, 27, 28, 29, 30, 31, 32, 33, 34, 35, 36, 37, 38, 39, 40, 41, 42, 43, 44, 45, 46, 47, 48, 49, 50, 51, 52

## HDR_M_2X28
designator J?  (value not drawn)
CONN, HEADER, Male, pitch: 2.54mm, 54POS; VALUE: HDR_M_2X28
footprint HDR_M_2X28 (Male Header 2X28 with 2.54 mm Pitch)
pins: 1, 2, 3, 4, 5, 6, 7, 8, 9, 10, 11, 12, 13, 14, 15, 16, 17, 18, 19, 20, 21, 22, 23, 24, 25, 26, 27, 28, 29, 30, 31, 32, 33, 34, 35, 36, 37, 38, 39, 40, 41, 42, 43, 44, 45, 46, 47, 48, 49, 50, 51, 52, 53, 54, 55, 56

## HDR_M_2X30
designator J?  (value not drawn)
CONN, HEADER, Male, pitch: 2.54mm, 60POS; VALUE: HDR_M_2X30
footprint HDR_M_2X30 (Male Header 2X30 with 2.54 mm Pitch)
pins: 1, 2, 3, 4, 5, 6, 7, 8, 9, 10, 11, 12, 13, 14, 15, 16, 17, 18, 19, 20, 21, 22, 23, 24, 25, 26, 27, 28, 29, 30, 31, 32, 33, 34, 35, 36, 37, 38, 39, 40, 41, 42, 43, 44, 45, 46, 47, 48, 49, 50, 51, 52, 53, 54, 55, 56, 57, 58, 59, 60

## HDR_M_2X32
designator J?  (value not drawn)
CONN, HEADER, Male, pitch: 2.54mm, 64POS; VALUE: HDR_M_2X32
footprint HDR_M_2X32 (Male Header 2X32 with 2.54 mm Pitch)
pins: 1, 2, 3, 4, 5, 6, 7, 8, 9, 10, 11, 12, 13, 14, 15, 16, 17, 18, 19, 20, 21, 22, 23, 24, 25, 26, 27, 28, 29, 30, 31, 32, 33, 34, 35, 36, 37, 38, 39, 40, 41, 42, 43, 44, 45, 46, 47, 48, 49, 50, 51, 52, 53, 54, 55, 56, 57, 58, 59, 60, 61, 62, 63, 64

## HDR_M_2X33
designator J?  (value not drawn)
CONN, HEADER, Male, pitch: 2.54mm, 66POS; VALUE: HDR_M_2X33
footprint HDR_M_2X33 (Male Header 2X33 with 2.54 mm Pitch)
pins: 1, 2, 3, 4, 5, 6, 7, 8, 9, 10, 11, 12, 13, 14, 15, 16, 17, 18, 19, 20, 21, 22, 23, 24, 25, 26, 27, 28, 29, 30, 31, 32, 33, 34, 35, 36, 37, 38, 39, 40, 41, 42, 43, 44, 45, 46, 47, 48, 49, 50, 51, 52, 53, 54, 55, 56, 57, 58, 59, 60, 61, 62, 63, 64, 65, 66, 67, 68

## HDR_M_2X34
designator J?  (value not drawn)
CONN, HEADER, Male, pitch: 2.54mm, 68POS; VALUE: HDR_M_2X34
footprint HDR_M_2X34 (Male Header 2X34 with 2.54 mm Pitch)
pins: 1, 2, 3, 4, 5, 6, 7, 8, 9, 10, 11, 12, 13, 14, 15, 16, 17, 18, 19, 20, 21, 22, 23, 24, 25, 26, 27, 28, 29, 30, 31, 32, 33, 34, 35, 36, 37, 38, 39, 40, 41, 42, 43, 44, 45, 46, 47, 48, 49, 50, 51, 52, 53, 54, 55, 56, 57, 58, 59, 60, 61, 62, 63, 64, 65, 66, 67, 68

## HDR_M_2X35
designator J?  (value not drawn)
CONN, HEADER, Male, pitch: 2.54mm, 70POS; VALUE: HDR_M_2X35
footprint HDR_M_2X35 (Male Header 2X35 with 2.54 mm Pitch)
pins: 1, 2, 3, 4, 5, 6, 7, 8, 9, 10, 11, 12, 13, 14, 15, 16, 17, 18, 19, 20, 21, 22, 23, 24, 25, 26, 27, 28, 29, 30, 31, 32, 33, 34, 35, 36, 37, 38, 39, 40, 41, 42, 43, 44, 45, 46, 47, 48, 49, 50, 51, 52, 53, 54, 55, 56, 57, 58, 59, 60, 61, 62, 63, 64, 65, 66, 67, 68, 69, 70

## HDR_M_2X36
designator J?  (value not drawn)
CONN, HEADER, Male, pitch: 2.54mm, 72POS; VALUE: HDR_M_2X36
footprint HDR_M_2X36 (Male Header 2X36 with 2.54 mm Pitch)
pins: 1, 2, 3, 4, 5, 6, 7, 8, 9, 10, 11, 12, 13, 14, 15, 16, 17, 18, 19, 20, 21, 22, 23, 24, 25, 26, 27, 28, 29, 30, 31, 32, 33, 34, 35, 36, 37, 38, 39, 40, 41, 42, 43, 44, 45, 46, 47, 48, 49, 50, 51, 52, 53, 54, 55, 56, 57, 58, 59, 60, 61, 62, 63, 64, 65, 66, 67, 68, 69, 70, 71, 72

## HDR_M_2X38
designator J?  (value not drawn)
CONN, HEADER, Male, pitch: 2.54mm, 76POS; VALUE: HDR_M_2X38
footprint HDR_M_2X38 (Male Header 2X38 with 2.54 mm Pitch)
pins: 1, 2, 3, 4, 5, 6, 7, 8, 9, 10, 11, 12, 13, 14, 15, 16, 17, 18, 19, 20, 21, 22, 23, 24, 25, 26, 27, 28, 29, 30, 31, 32, 33, 34, 35, 36, 37, 38, 39, 40, 41, 42, 43, 44, 45, 46, 47, 48, 49, 50, 51, 52, 53, 54, 55, 56, 57, 58, 59, 60, 61, 62, 63, 64, 65, 66, 67, 68, 69, 70, 71, 72, 73, 74, 75, 76

## HDR_M_2X40
designator J?  (value not drawn)
CONN, HEADER, Male, pitch: 2.54mm, 80POS; VALUE: HDR_M_2X40
footprint HDR_M_2X40 (Male Header 2X40 with 2.54 mm Pitch)
pins: 1, 2, 3, 4, 5, 6, 7, 8, 9, 10, 11, 12, 13, 14, 15, 16, 17, 18, 19, 20, 21, 22, 23, 24, 25, 26, 27, 28, 29, 30, 31, 32, 33, 34, 35, 36, 37, 38, 39, 40, 41, 42, 43, 44, 45, 46, 47, 48, 49, 50, 51, 52, 53, 54, 55, 56, 57, 58, 59, 60, 61, 62, 63, 64, 65, 66, 67, 68, 69, 70, 71, 72, 73, 74, 75, 76, 77, 78, 79, 80

## HDRS_M_1X2
designator J?, comment HDRM2  (value not drawn)
CONN, HEADER, Male, pitch: 2.54mm, 2POS, SMD; MANF_P#: 87898-0204; MANF: MOLEX; DESC: DESCRIPTION; ASSEMBLY: ASSEMBLY; PARAM: PARAM; PRICE: 0.5$; VALUE: HDRM2
footprint HDRS_M_1X2
pins: 1 P1, 2 P2

## HDRS_M_1X3
designator J?, comment HDRM3  (value not drawn)
CONN, HEADER, Male, pitch: 2.54mm, 3POS, SMD; MANF_P#: 87898-0304; MANF: MOLEX; DESC: DESCRIPTION; ASSEMBLY: ASSEMBLY; PARAM: PARAM; PRICE: 0.5$; VALUE: HDRM3
footprint HDRS_M_1X3 (Connector; Header; 3 Position, SMD)
pins: 1 P1, 2 P2, 3

## HDRS_M_1X4
designator J?, comment HDRM4  (value not drawn)
CONN, HEADER, Male, pitch: 2.54mm, 4POS, SMD; MANF_P#: 87898-0426; MANF: MOLEX; DESC: DESCRIPTION; ASSEMBLY: ASSEMBLY; PARAM: PARAM; PRICE: 0.3$; VALUE: HDRM4
footprint HDRS_M_1X4 (Connector; Header; 4 Position, SMD)
pins: 1, 2, 3, 4

## HDRS_M_1X5
designator J?, comment HDRM5  (value not drawn)
CONN, HEADER, Male, pitch: 2.54mm, 5POS, SMD; MANF_P#: PBC36SAAN; MANF: Sullins; DESC: DESCRIPTION; ASSEMBLY: ASSEMBLY; PARAM: PARAM; PRICE: PRICE; VALUE: HDRM5
footprint HDRS_M_1X5 (Connector; Header; 5 Position, SMD)
pins: 1, 2, 3, 4, 5

## HDRS_M_1X6
designator J?, comment HDRM6  (value not drawn)
CONN, HEADER, Male, pitch: 2.54mm, 6POS, SMD; MANF_P#: PBC36SAAN; MANF: Sullins; DESC: DESCRIPTION; ASSEMBLY: ASSEMBLY; PARAM: PARAM; PRICE: PRICE; VALUE: HDRM6
footprint HDRS_M_1X6 (Connector; Header; 6 Position, SMD)
pins: 1, 2, 3, 4, 5, 6

## HDRS_M_1X7
designator J?, comment HDRM7  (value not drawn)
CONN, HEADER, Male, pitch: 2.54mm, 7POS, SMD; MANF_P#: PBC36SAAN; MANF: Sullins; DESC: DESCRIPTION; ASSEMBLY: ASSEMBLY; PARAM: PARAM; PRICE: PRICE; VALUE: HDRM7
footprint HDRS_M_1X7 (Connector; Header; 7 Position, SMD)
pins: 1, 2, 3, 4, 5, 6, 7

## HDRS_M_1X8
designator J?, comment HDRM8  (value not drawn)
CONN, HEADER, Male, pitch: 2.54mm, 8POS, SMD; MANF_P#: PBC36SAAN; MANF: Sullins; DESC: DESCRIPTION; ASSEMBLY: ASSEMBLY; PARAM: PARAM; PRICE: PRICE; VALUE: HDRM8
footprint HDRS_M_1X8 (Connector; Header; 8 Position, SMD)
pins: 1, 2, 3, 4, 5, 6, 7, 8

## HDRS_M_2X2
designator J?, comment HDRM_2X2  (value not drawn)
CONN, HEADER, Male, pitch: 2.54mm, 4POS, SMD; MANF_P#: MANF_PART#; MANF: MANF; VALUE: HDRM_2X2
footprint HDRS_M_2X2
pins: 1, 2, 3, 4

## HDRS_M_2X3
designator J?, comment HDRM_2X3  (value not drawn)
CONN, HEADER, Male, pitch: 2.54mm, 6POS, SMD; MANF_P#: MANF_PART#; MANF: MANF; VALUE: HDRM_2X3
footprint HDRS_M_2X3 (Connector; Header; 3x2 Position, SMD)
pins: 1, 2, 3, 4, 5, 6

## HDRS_M_2X5
designator J?, comment HDRM_2X5  (value not drawn)
CONN, HEADER, Male, pitch: 2.54mm, 10POS, SMD; MANF: Samtec; DESC: CONN HEADER .100 DUAL; MANF_P#: -; ASSEMBLY: ASSEMBLY; PARAM: PARAM; PRICE: PRICE; VALUE: HDRM_2X5
footprint HDRS_M_2X5 (Male Header 2X05 with 2.54 mm SMD, TSM-105-01-X-DV-A)
footprint HDRS_M_2X5_C (Footprint not found)
pins: 1, 2, 3, 4, 5, 6, 7, 8, 9, 10

## HDRS_M_2X7
designator J?, comment HDRM_2X7  (value not drawn)
CONN, HEADER, Male, pitch: 2.54mm, 14POS, SMD; MANF_P#: MTLW-107-07-G-D-265; MANF: Samtec; DESC: CONN HEADER .100 DUAL; ASSEMBLY: ASSEMBLY; PARAM: PARAM; PRICE: PRICE; VALUE: HDRM_2X7
footprint HDRS_M_2X7
pins: 1, 2, 3, 4, 5, 6, 7, 8, 9, 10, 11, 12, 13, 14

## HDRSE_M_1X2
designator J?, comment HDRM2  (value not drawn)
CONN, HEADER, Male, pitch: 2.54mm, 2POS, SMD; MANF_P#: PBC36SAAN; MANF: Sullins; DESC: DESCRIPTION; ASSEMBLY: ASSEMBLY; PARAM: PARAM; PRICE: PRICE; VALUE: HDRM2
footprint HDRSE_M_1X2
pins: 1 P1, 2 P2

## HDRSE_M_2X4
designator J?, comment HDRM_2X4  (value not drawn)
CONN, HEADER, Male, pitch: 2.54mm, 8POS, SMD; DESC: CONN HEADER .100 DUAL; MANF_P#: -; MANF: -; ASSEMBLY: ASSEMBLY; PARAM: PARAM; PRICE: PRICE; VALUE: HDRM_2X4
footprint HDRSE_M_2X4 (Connector; Header; 4x2 Position, SMD, EDGE of Board)
pins: 1, 2, 3, 4, 5, 6, 7, 8

## HDRTST_1X2
designator J?, comment HDR2  (value not drawn)
HEADER, 1mm pitch, test, SMD; VALUE: HDR2
footprint HDR1SE_M_1X2 (HEADER, 1mm, test, SMD)
pins: 1, 2

## HDRTST_1X3
designator J?, comment HDR3  (value not drawn)
HEADER, 1mm pitch, test, SMD; VALUE: HDR3
footprint HDR1SE_M_1X3 (HEADER, 1mm, test, SMD)
pins: 1, 2, 3

## HDRTST_1X4
designator JM?, comment HDR4  (value not drawn)
HEADER, 1mm pitch, test, SMD; VALUE: HDR4
footprint HDR1SE_M_1X4 (HEADER, 1mm, test, SMD)
pins: 1, 2, 3, 4

## HDRTST_1X5
designator J?, comment HDR_1X5  (value not drawn)
HEADER, 1mm pitch, test, SMD; VALUE: HDR_1X5
footprint HDR1SE_M_1X5 (HEADER, 1mm, test, SMD)
pins: 1, 2, 3, 4, 5

## HDRTST_1X8
designator JK1, comment HDR_1X8  (value not drawn)
HEADER, 1mm pitch, test, SMD; VALUE: HDR_1X8
footprint HDR1SE_M_1X8 (HEADER, 1mm, test, SMD)
pins: 1, 2, 3, 4, 5, 6, 7, 8

## HDRTST_1X10
designator Je1, comment HDR_1X11  (value not drawn)
HEADER, 1mm pitch, test, SMD; VALUE: HDR_1X11
footprint HDR1SE_M_1X10 (HEADER, 1mm, test, SMD)
pins: 1, 2, 3, 4, 5, 6, 7, 8, 9, 10